# Altium schematic symbol library ADA4945-1.SchLib: 1 symbol
Pins are listed as number, name and electrical type; pins without a type are passive.

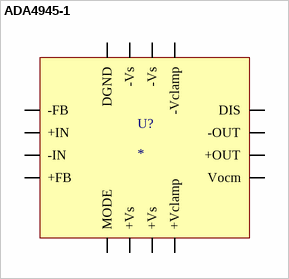
[diagram p0: symbol ADA4945-1]

## ADA4945-1
designator U?
pins: 1 -FB, 2 +IN, 3 -IN, 4 +FB, 5 MODE, 6 +Vs, 7 +Vs, 8 +Vclamp, 9 Vocm, 10 +OUT, 11 -OUT, 12 DIS, 13 -Vclamp, 14 -Vs, 15 -Vs, 16 DGND